# Altium schematic symbol library ESDSBLC24VLB-TP.SchLib: 2 symbols
Pins are listed as number, name and electrical type; pins without a type are passive.

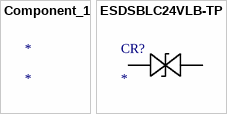
[diagram p0: symbols Component_1 to ESDSBLC24VLB-TP]

## Component_1
designator *

## ESDSBLC24VLB-TP
designator CR?
No Description Available; Mfr_Name: MCC
footprint TVS_DFN1006-2_MCC
pins: 1 ANODECATHODE, 2 ANODECATHODE_2